# Altium integrated library TI Converter CODEC Voice-Band.IntLib: 99 symbols (part 4 of 7)
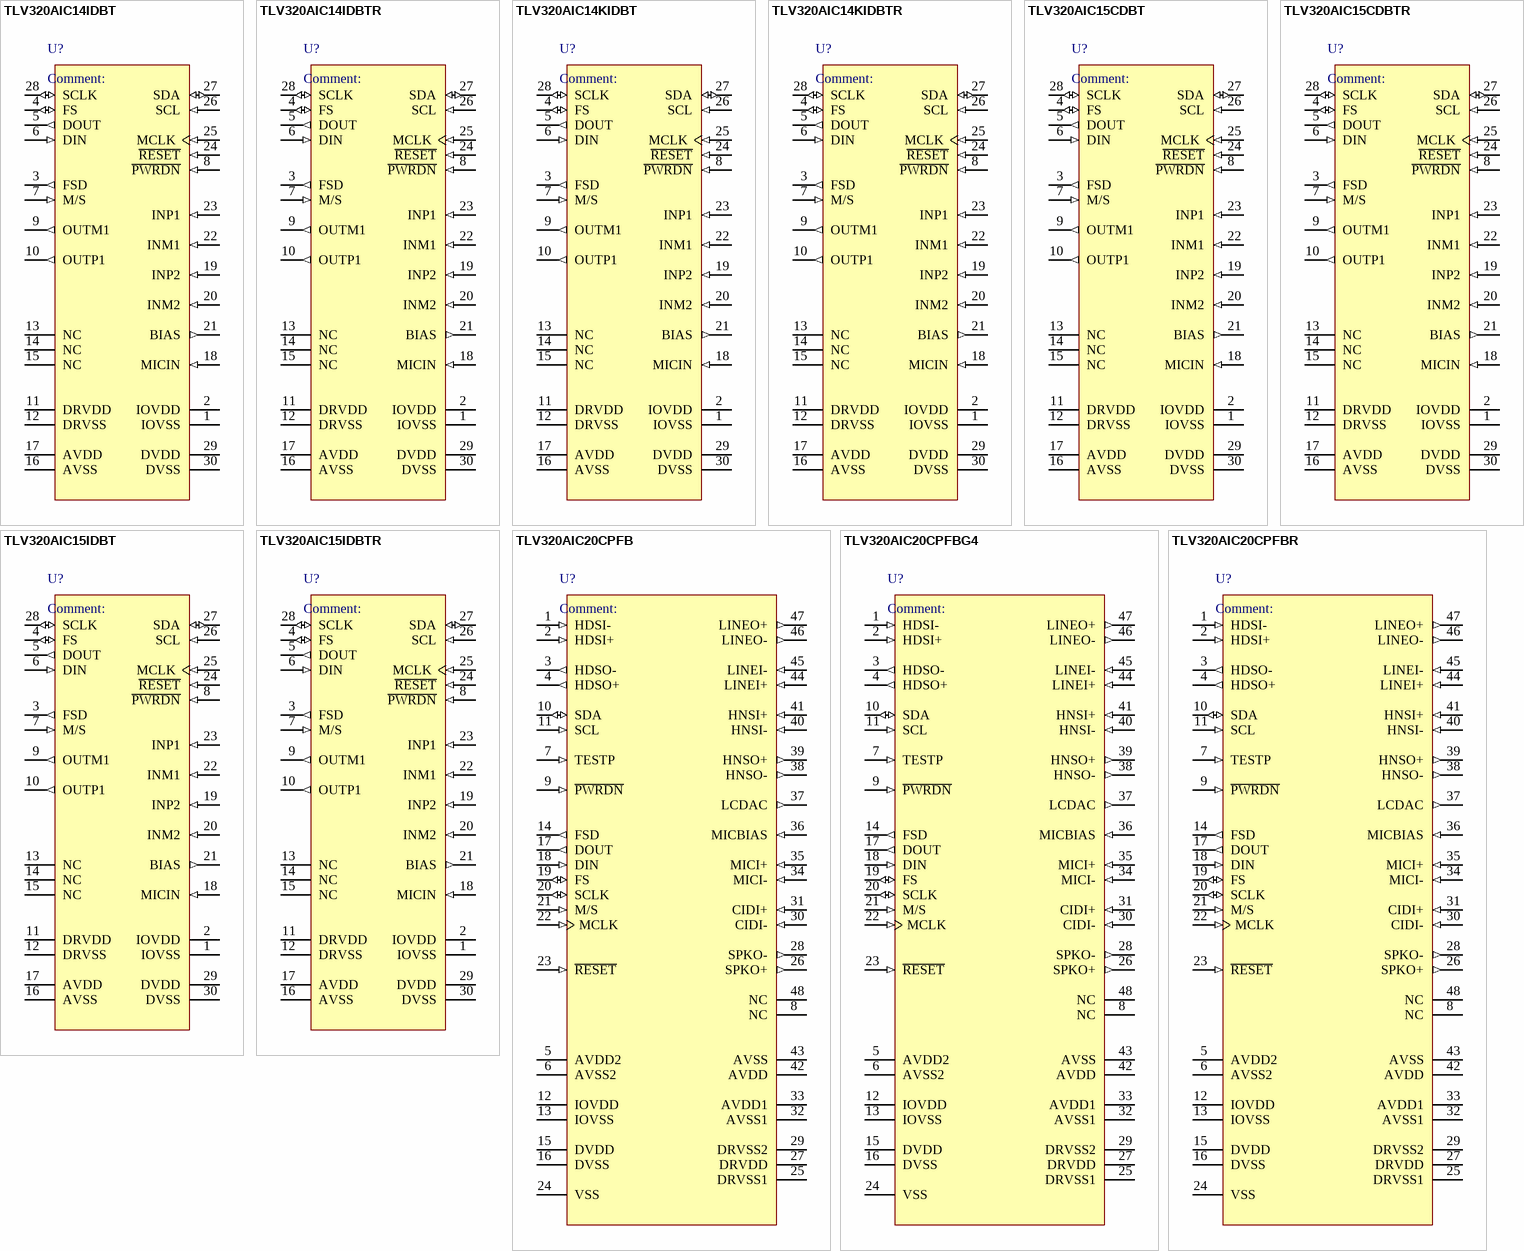
[diagram p12: symbols TLV320AIC14IDBT to TLV320AIC20CPFBR]

## TLV320AIC20CPFBG4
designator U?
Low-Power, Highly-Integrated, Programmable 16-Bit, 26-KSPS Dual-Channel CODEC, 48-Pin TQFP, Commerical Grade; Published: 16-Dec-2005; LatestRevisionDate: 13-Apr-2006; LatestRevisionNote: IPC-7351 Footprint Added.; DatasheetVersion: 13-Sep-2005; PackageVersion: Jan-1998; PackageReference: PFB48; Publisher: Altium Limited; PackageDescription: 48-Pin Thin Plastic Quad Flat Pack 0.5 mm Pitch; Code_JEDEC: MS-026; ComponentLink1Description: Manufacturer Link; ComponentLink1URL: http://www.ti.com/; ComponentLink2Description: Datasheet; ComponentLink2URL: http://focus.ti.com/lit/ds/symlink/tlv320aic20.pdf
footprint PFB48_N (Thin QFP, 48-Leads, Body 7x7mm, Pitch 0.5mm, IPC Medium Density)
footprint PFB48_L (Thin QFP, 48-Leads, Body 7x7mm, Pitch 0.5mm, IPC High Density)
footprint PFB48_M (Thin QFP, 48-Leads, Body 7x7mm, Pitch 0.5mm, IPC Low Density)
pins: 1 HDSI- (in) "Head-set input. The Head-set input can be treated similar to the Line-input pins", 2 HDSI+ (in) "Head-set input. The Head-set input can be treated similar to the Line-input pins", 3 HDSO- (out) "150W output", 4 HDSO+ (out) "150W output", 5 AVDD2 (power) "Analog power supply", 6 AVSS2 (power) "Analog ground", 7 TESTP (in) "Test pin. Should be connected to digital ground.", 8 NC "Not connected", 9 ~{PWRDN} (in) "Power down", 10 SDA (io) "I2C/S2C data", 11 SCL (in) "I2C/S2C clock", 12 IOVDD (power) "I/O power supply", 13 IOVSS (power) "I/O ground", 14 FSD (out) "Frame sync delayed", 15 DVDD (power) "Digital supply (1.8 V)", 16 DVSS (power) "Digital ground", 17 DOUT (out) "Data OUT", 18 DIN (in) "Data IN", 19 FS (io) "Frame sync", 20 SCLK (io) "Serial clock", 21 M/S (in) "Master slave select applied to CODEC1 only. CODEC2 is always a slave.", 22 MCLK (in) "Master clock", 23 ~{RESET} (in) "Reset", 24 VSS (power) "Device ground. Typically this should be connected to the Analog Ground.", 25 DRVSS1 (power) "Driver ground", 26 SPKO+ (out) "8W output", 27 DRVDD (power) "Driver supply", 28 SPKO- (out) "8W output", 29 DRVSS2 (power) "Driver ground", 30 CIDI- (in) "Caller-ID input. The Caller-ID input can be treated similar to the Line-input pins", 31 CIDI+ (in) "Caller-ID input. The Caller-ID input can be treated similar to the Line-input pins", 32 AVSS1 (power) "Analog ground", 33 AVDD1 (power) "Analog supply", 34 MICI- (in) "Microphone input", 35 MICI+ (in) "Microphone input", 36 MICBIAS (in) "Microphone bias", 37 LCDAC (out) "6-Bit DAC output may be used to drive LCDAC", 38 HNSO- (out) "150-W output", 39 HNSO+ (out) "150-W output", 40 HNSI- (in) "Hand-set input. The Hand-set input can be treated similar to the Line-input pins", 41 HNSI+ (in) "Hand-set input. The Hand-set input can be treated similar to the Line-input pins", 42 AVDD (power) "Analog supply", 43 AVSS (power) "Analog ground", 44 LINEI+ (in) "Line input", 45 LINEI- (in) "Line input", 46 LINEO- (out) "600W output", 47 LINEO+ (out) "600W output", 48 NC "Not connected"

## TLV320AIC20CPFBR
designator U?
Low-Power, Highly-Integrated, Programmable 16-Bit, 26-KSPS Dual-Channel CODEC, 48-Pin TQFP, Commerical Grade; Published: 16-Dec-2005; LatestRevisionDate: 13-Apr-2006; LatestRevisionNote: IPC-7351 Footprint Added.; DatasheetVersion: 13-Sep-2005; PackageVersion: Jan-1998; PackageReference: PFB48; Publisher: Altium Limited; PackageDescription: 48-Pin Thin Plastic Quad Flat Pack 0.5 mm Pitch; Code_JEDEC: MS-026; ComponentLink1Description: Manufacturer Link; ComponentLink1URL: http://www.ti.com/; ComponentLink2Description: Datasheet; ComponentLink2URL: http://focus.ti.com/lit/ds/symlink/tlv320aic20.pdf
footprint PFB48_N (Thin QFP, 48-Leads, Body 7x7mm, Pitch 0.5mm, IPC Medium Density)
footprint PFB48_L (Thin QFP, 48-Leads, Body 7x7mm, Pitch 0.5mm, IPC High Density)
footprint PFB48_M (Thin QFP, 48-Leads, Body 7x7mm, Pitch 0.5mm, IPC Low Density)
pins: 1 HDSI- (in) "Head-set input. The Head-set input can be treated similar to the Line-input pins", 2 HDSI+ (in) "Head-set input. The Head-set input can be treated similar to the Line-input pins", 3 HDSO- (out) "150W output", 4 HDSO+ (out) "150W output", 5 AVDD2 (power) "Analog power supply", 6 AVSS2 (power) "Analog ground", 7 TESTP (in) "Test pin. Should be connected to digital ground.", 8 NC "Not connected", 9 ~{PWRDN} (in) "Power down", 10 SDA (io) "I2C/S2C data", 11 SCL (in) "I2C/S2C clock", 12 IOVDD (power) "I/O power supply", 13 IOVSS (power) "I/O ground", 14 FSD (out) "Frame sync delayed", 15 DVDD (power) "Digital supply (1.8 V)", 16 DVSS (power) "Digital ground", 17 DOUT (out) "Data OUT", 18 DIN (in) "Data IN", 19 FS (io) "Frame sync", 20 SCLK (io) "Serial clock", 21 M/S (in) "Master slave select applied to CODEC1 only. CODEC2 is always a slave.", 22 MCLK (in) "Master clock", 23 ~{RESET} (in) "Reset", 24 VSS (power) "Device ground. Typically this should be connected to the Analog Ground.", 25 DRVSS1 (power) "Driver ground", 26 SPKO+ (out) "8W output", 27 DRVDD (power) "Driver supply", 28 SPKO- (out) "8W output", 29 DRVSS2 (power) "Driver ground", 30 CIDI- (in) "Caller-ID input. The Caller-ID input can be treated similar to the Line-input pins", 31 CIDI+ (in) "Caller-ID input. The Caller-ID input can be treated similar to the Line-input pins", 32 AVSS1 (power) "Analog ground", 33 AVDD1 (power) "Analog supply", 34 MICI- (in) "Microphone input", 35 MICI+ (in) "Microphone input", 36 MICBIAS (in) "Microphone bias", 37 LCDAC (out) "6-Bit DAC output may be used to drive LCDAC", 38 HNSO- (out) "150-W output", 39 HNSO+ (out) "150-W output", 40 HNSI- (in) "Hand-set input. The Hand-set input can be treated similar to the Line-input pins", 41 HNSI+ (in) "Hand-set input. The Hand-set input can be treated similar to the Line-input pins", 42 AVDD (power) "Analog supply", 43 AVSS (power) "Analog ground", 44 LINEI+ (in) "Line input", 45 LINEI- (in) "Line input", 46 LINEO- (out) "600W output", 47 LINEO+ (out) "600W output", 48 NC "Not connected"

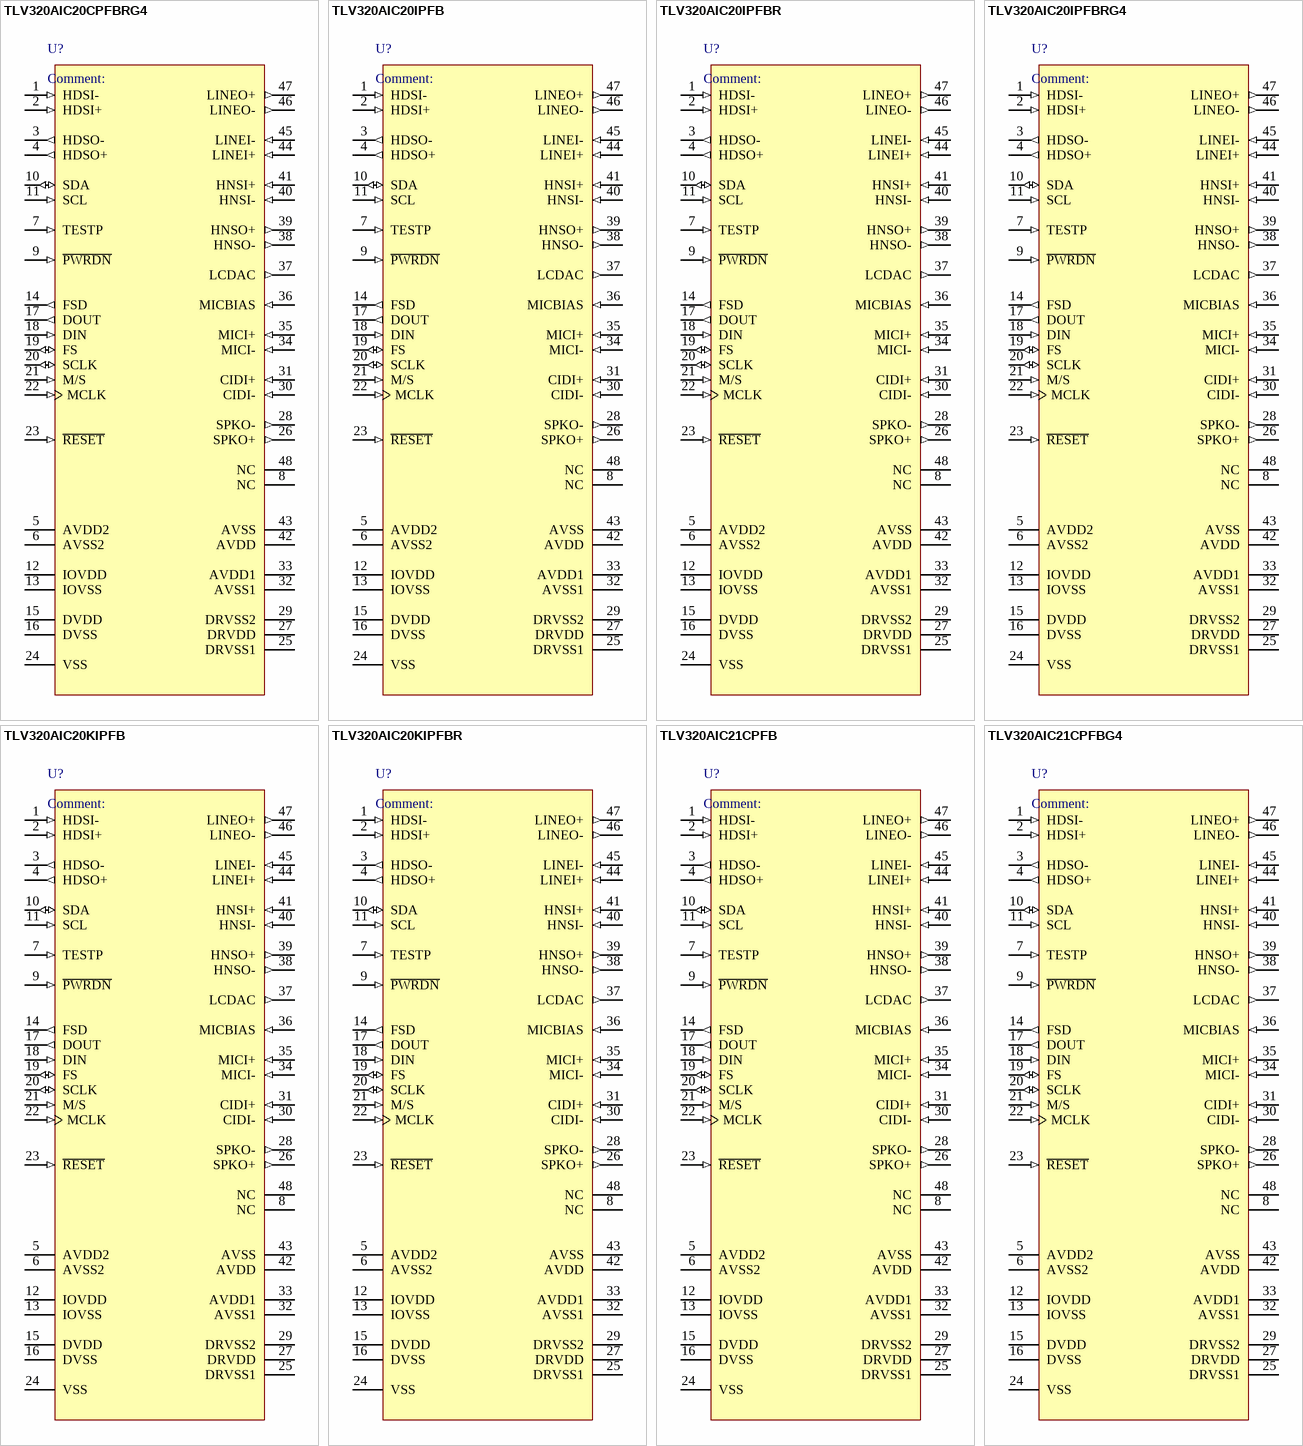
[diagram p4: symbols TLV320AIC20CPFBRG4 to TLV320AIC21CPFBG4]

## TLV320AIC20CPFBRG4
designator U?
Low-Power, Highly-Integrated, Programmable 16-Bit, 26-KSPS Dual-Channel CODEC, 48-Pin TQFP, Commerical Grade; Published: 16-Dec-2005; LatestRevisionDate: 13-Apr-2006; LatestRevisionNote: IPC-7351 Footprint Added.; DatasheetVersion: 13-Sep-2005; PackageVersion: Jan-1998; PackageReference: PFB48; Publisher: Altium Limited; PackageDescription: 48-Pin Thin Plastic Quad Flat Pack 0.5 mm Pitch; Code_JEDEC: MS-026; ComponentLink1Description: Manufacturer Link; ComponentLink1URL: http://www.ti.com/; ComponentLink2Description: Datasheet; ComponentLink2URL: http://focus.ti.com/lit/ds/symlink/tlv320aic20.pdf
footprint PFB48_N (Thin QFP, 48-Leads, Body 7x7mm, Pitch 0.5mm, IPC Medium Density)
footprint PFB48_L (Thin QFP, 48-Leads, Body 7x7mm, Pitch 0.5mm, IPC High Density)
footprint PFB48_M (Thin QFP, 48-Leads, Body 7x7mm, Pitch 0.5mm, IPC Low Density)
pins: 1 HDSI- (in) "Head-set input. The Head-set input can be treated similar to the Line-input pins", 2 HDSI+ (in) "Head-set input. The Head-set input can be treated similar to the Line-input pins", 3 HDSO- (out) "150W output", 4 HDSO+ (out) "150W output", 5 AVDD2 (power) "Analog power supply", 6 AVSS2 (power) "Analog ground", 7 TESTP (in) "Test pin. Should be connected to digital ground.", 8 NC "Not connected", 9 ~{PWRDN} (in) "Power down", 10 SDA (io) "I2C/S2C data", 11 SCL (in) "I2C/S2C clock", 12 IOVDD (power) "I/O power supply", 13 IOVSS (power) "I/O ground", 14 FSD (out) "Frame sync delayed", 15 DVDD (power) "Digital supply (1.8 V)", 16 DVSS (power) "Digital ground", 17 DOUT (out) "Data OUT", 18 DIN (in) "Data IN", 19 FS (io) "Frame sync", 20 SCLK (io) "Serial clock", 21 M/S (in) "Master slave select applied to CODEC1 only. CODEC2 is always a slave.", 22 MCLK (in) "Master clock", 23 ~{RESET} (in) "Reset", 24 VSS (power) "Device ground. Typically this should be connected to the Analog Ground.", 25 DRVSS1 (power) "Driver ground", 26 SPKO+ (out) "8W output", 27 DRVDD (power) "Driver supply", 28 SPKO- (out) "8W output", 29 DRVSS2 (power) "Driver ground", 30 CIDI- (in) "Caller-ID input. The Caller-ID input can be treated similar to the Line-input pins", 31 CIDI+ (in) "Caller-ID input. The Caller-ID input can be treated similar to the Line-input pins", 32 AVSS1 (power) "Analog ground", 33 AVDD1 (power) "Analog supply", 34 MICI- (in) "Microphone input", 35 MICI+ (in) "Microphone input", 36 MICBIAS (in) "Microphone bias", 37 LCDAC (out) "6-Bit DAC output may be used to drive LCDAC", 38 HNSO- (out) "150-W output", 39 HNSO+ (out) "150-W output", 40 HNSI- (in) "Hand-set input. The Hand-set input can be treated similar to the Line-input pins", 41 HNSI+ (in) "Hand-set input. The Hand-set input can be treated similar to the Line-input pins", 42 AVDD (power) "Analog supply", 43 AVSS (power) "Analog ground", 44 LINEI+ (in) "Line input", 45 LINEI- (in) "Line input", 46 LINEO- (out) "600W output", 47 LINEO+ (out) "600W output", 48 NC "Not connected"

## TLV320AIC20IPFB
designator U?
Low-Power, Highly-Integrated, Programmable 16-Bit, 26-KSPS Dual-Channel CODEC, 48-Pin TQFP, Industrial Grade; Published: 16-Dec-2005; LatestRevisionDate: 13-Apr-2006; LatestRevisionNote: IPC-7351 Footprint Added.; DatasheetVersion: 13-Sep-2005; PackageVersion: Jan-1998; PackageReference: PFB48; Publisher: Altium Limited; PackageDescription: 48-Pin Thin Plastic Quad Flat Pack 0.5 mm Pitch; Code_JEDEC: MS-026; ComponentLink1Description: Manufacturer Link; ComponentLink1URL: http://www.ti.com/; ComponentLink2Description: Datasheet; ComponentLink2URL: http://focus.ti.com/lit/ds/symlink/tlv320aic20.pdf
footprint PFB48_N (Thin QFP, 48-Leads, Body 7x7mm, Pitch 0.5mm, IPC Medium Density)
footprint PFB48_L (Thin QFP, 48-Leads, Body 7x7mm, Pitch 0.5mm, IPC High Density)
footprint PFB48_M (Thin QFP, 48-Leads, Body 7x7mm, Pitch 0.5mm, IPC Low Density)
pins: 1 HDSI- (in) "Head-set input. The Head-set input can be treated similar to the Line-input pins", 2 HDSI+ (in) "Head-set input. The Head-set input can be treated similar to the Line-input pins", 3 HDSO- (out) "150W output", 4 HDSO+ (out) "150W output", 5 AVDD2 (power) "Analog power supply", 6 AVSS2 (power) "Analog ground", 7 TESTP (in) "Test pin. Should be connected to digital ground.", 8 NC "Not connected", 9 ~{PWRDN} (in) "Power down", 10 SDA (io) "I2C/S2C data", 11 SCL (in) "I2C/S2C clock", 12 IOVDD (power) "I/O power supply", 13 IOVSS (power) "I/O ground", 14 FSD (out) "Frame sync delayed", 15 DVDD (power) "Digital supply (1.8 V)", 16 DVSS (power) "Digital ground", 17 DOUT (out) "Data OUT", 18 DIN (in) "Data IN", 19 FS (io) "Frame sync", 20 SCLK (io) "Serial clock", 21 M/S (in) "Master slave select applied to CODEC1 only. CODEC2 is always a slave.", 22 MCLK (in) "Master clock", 23 ~{RESET} (in) "Reset", 24 VSS (power) "Device ground. Typically this should be connected to the Analog Ground.", 25 DRVSS1 (power) "Driver ground", 26 SPKO+ (out) "8W output", 27 DRVDD (power) "Driver supply", 28 SPKO- (out) "8W output", 29 DRVSS2 (power) "Driver ground", 30 CIDI- (in) "Caller-ID input. The Caller-ID input can be treated similar to the Line-input pins", 31 CIDI+ (in) "Caller-ID input. The Caller-ID input can be treated similar to the Line-input pins", 32 AVSS1 (power) "Analog ground", 33 AVDD1 (power) "Analog supply", 34 MICI- (in) "Microphone input", 35 MICI+ (in) "Microphone input", 36 MICBIAS (in) "Microphone bias", 37 LCDAC (out) "6-Bit DAC output may be used to drive LCDAC", 38 HNSO- (out) "150-W output", 39 HNSO+ (out) "150-W output", 40 HNSI- (in) "Hand-set input. The Hand-set input can be treated similar to the Line-input pins", 41 HNSI+ (in) "Hand-set input. The Hand-set input can be treated similar to the Line-input pins", 42 AVDD (power) "Analog supply", 43 AVSS (power) "Analog ground", 44 LINEI+ (in) "Line input", 45 LINEI- (in) "Line input", 46 LINEO- (out) "600W output", 47 LINEO+ (out) "600W output", 48 NC "Not connected"

## TLV320AIC20IPFBR
designator U?
Low-Power, Highly-Integrated, Programmable 16-Bit, 26-KSPS Dual-Channel CODEC, 48-Pin TQFP, Industrial Grade; Published: 16-Dec-2005; LatestRevisionDate: 13-Apr-2006; LatestRevisionNote: IPC-7351 Footprint Added.; DatasheetVersion: 13-Sep-2005; PackageVersion: Jan-1998; PackageReference: PFB48; Publisher: Altium Limited; PackageDescription: 48-Pin Thin Plastic Quad Flat Pack 0.5 mm Pitch; Code_JEDEC: MS-026; ComponentLink1Description: Manufacturer Link; ComponentLink1URL: http://www.ti.com/; ComponentLink2Description: Datasheet; ComponentLink2URL: http://focus.ti.com/lit/ds/symlink/tlv320aic20.pdf
footprint PFB48_N (Thin QFP, 48-Leads, Body 7x7mm, Pitch 0.5mm, IPC Medium Density)
footprint PFB48_L (Thin QFP, 48-Leads, Body 7x7mm, Pitch 0.5mm, IPC High Density)
footprint PFB48_M (Thin QFP, 48-Leads, Body 7x7mm, Pitch 0.5mm, IPC Low Density)
pins: 1 HDSI- (in) "Head-set input. The Head-set input can be treated similar to the Line-input pins", 2 HDSI+ (in) "Head-set input. The Head-set input can be treated similar to the Line-input pins", 3 HDSO- (out) "150W output", 4 HDSO+ (out) "150W output", 5 AVDD2 (power) "Analog power supply", 6 AVSS2 (power) "Analog ground", 7 TESTP (in) "Test pin. Should be connected to digital ground.", 8 NC "Not connected", 9 ~{PWRDN} (in) "Power down", 10 SDA (io) "I2C/S2C data", 11 SCL (in) "I2C/S2C clock", 12 IOVDD (power) "I/O power supply", 13 IOVSS (power) "I/O ground", 14 FSD (out) "Frame sync delayed", 15 DVDD (power) "Digital supply (1.8 V)", 16 DVSS (power) "Digital ground", 17 DOUT (out) "Data OUT", 18 DIN (in) "Data IN", 19 FS (io) "Frame sync", 20 SCLK (io) "Serial clock", 21 M/S (in) "Master slave select applied to CODEC1 only. CODEC2 is always a slave.", 22 MCLK (in) "Master clock", 23 ~{RESET} (in) "Reset", 24 VSS (power) "Device ground. Typically this should be connected to the Analog Ground.", 25 DRVSS1 (power) "Driver ground", 26 SPKO+ (out) "8W output", 27 DRVDD (power) "Driver supply", 28 SPKO- (out) "8W output", 29 DRVSS2 (power) "Driver ground", 30 CIDI- (in) "Caller-ID input. The Caller-ID input can be treated similar to the Line-input pins", 31 CIDI+ (in) "Caller-ID input. The Caller-ID input can be treated similar to the Line-input pins", 32 AVSS1 (power) "Analog ground", 33 AVDD1 (power) "Analog supply", 34 MICI- (in) "Microphone input", 35 MICI+ (in) "Microphone input", 36 MICBIAS (in) "Microphone bias", 37 LCDAC (out) "6-Bit DAC output may be used to drive LCDAC", 38 HNSO- (out) "150-W output", 39 HNSO+ (out) "150-W output", 40 HNSI- (in) "Hand-set input. The Hand-set input can be treated similar to the Line-input pins", 41 HNSI+ (in) "Hand-set input. The Hand-set input can be treated similar to the Line-input pins", 42 AVDD (power) "Analog supply", 43 AVSS (power) "Analog ground", 44 LINEI+ (in) "Line input", 45 LINEI- (in) "Line input", 46 LINEO- (out) "600W output", 47 LINEO+ (out) "600W output", 48 NC "Not connected"

## TLV320AIC20IPFBRG4
designator U?
Low-Power, Highly-Integrated, Programmable 16-Bit, 26-KSPS Dual-Channel CODEC, 48-Pin TQFP, Industrial Grade; Published: 16-Dec-2005; LatestRevisionDate: 13-Apr-2006; LatestRevisionNote: IPC-7351 Footprint Added.; DatasheetVersion: 13-Sep-2005; PackageVersion: Jan-1998; PackageReference: PFB48; Publisher: Altium Limited; PackageDescription: 48-Pin Thin Plastic Quad Flat Pack 0.5 mm Pitch; Code_JEDEC: MS-026; ComponentLink1Description: Manufacturer Link; ComponentLink1URL: http://www.ti.com/; ComponentLink2Description: Datasheet; ComponentLink2URL: http://focus.ti.com/lit/ds/symlink/tlv320aic20.pdf
footprint PFB48_N (Thin QFP, 48-Leads, Body 7x7mm, Pitch 0.5mm, IPC Medium Density)
footprint PFB48_L (Thin QFP, 48-Leads, Body 7x7mm, Pitch 0.5mm, IPC High Density)
footprint PFB48_M (Thin QFP, 48-Leads, Body 7x7mm, Pitch 0.5mm, IPC Low Density)
pins: 1 HDSI- (in) "Head-set input. The Head-set input can be treated similar to the Line-input pins", 2 HDSI+ (in) "Head-set input. The Head-set input can be treated similar to the Line-input pins", 3 HDSO- (out) "150W output", 4 HDSO+ (out) "150W output", 5 AVDD2 (power) "Analog power supply", 6 AVSS2 (power) "Analog ground", 7 TESTP (in) "Test pin. Should be connected to digital ground.", 8 NC "Not connected", 9 ~{PWRDN} (in) "Power down", 10 SDA (io) "I2C/S2C data", 11 SCL (in) "I2C/S2C clock", 12 IOVDD (power) "I/O power supply", 13 IOVSS (power) "I/O ground", 14 FSD (out) "Frame sync delayed", 15 DVDD (power) "Digital supply (1.8 V)", 16 DVSS (power) "Digital ground", 17 DOUT (out) "Data OUT", 18 DIN (in) "Data IN", 19 FS (io) "Frame sync", 20 SCLK (io) "Serial clock", 21 M/S (in) "Master slave select applied to CODEC1 only. CODEC2 is always a slave.", 22 MCLK (in) "Master clock", 23 ~{RESET} (in) "Reset", 24 VSS (power) "Device ground. Typically this should be connected to the Analog Ground.", 25 DRVSS1 (power) "Driver ground", 26 SPKO+ (out) "8W output", 27 DRVDD (power) "Driver supply", 28 SPKO- (out) "8W output", 29 DRVSS2 (power) "Driver ground", 30 CIDI- (in) "Caller-ID input. The Caller-ID input can be treated similar to the Line-input pins", 31 CIDI+ (in) "Caller-ID input. The Caller-ID input can be treated similar to the Line-input pins", 32 AVSS1 (power) "Analog ground", 33 AVDD1 (power) "Analog supply", 34 MICI- (in) "Microphone input", 35 MICI+ (in) "Microphone input", 36 MICBIAS (in) "Microphone bias", 37 LCDAC (out) "6-Bit DAC output may be used to drive LCDAC", 38 HNSO- (out) "150-W output", 39 HNSO+ (out) "150-W output", 40 HNSI- (in) "Hand-set input. The Hand-set input can be treated similar to the Line-input pins", 41 HNSI+ (in) "Hand-set input. The Hand-set input can be treated similar to the Line-input pins", 42 AVDD (power) "Analog supply", 43 AVSS (power) "Analog ground", 44 LINEI+ (in) "Line input", 45 LINEI- (in) "Line input", 46 LINEO- (out) "600W output", 47 LINEO+ (out) "600W output", 48 NC "Not connected"

## TLV320AIC20KIPFB
designator U?
Low-Power, Highly-Integrated, Programmable 16-Bit, 26-KSPS Dual-Channel CODEC, 48-Pin TQFP, Industrial Grade; Published: 16-Dec-2005; LatestRevisionDate: 13-Apr-2006; LatestRevisionNote: IPC-7351 Footprint Added.; DatasheetVersion: 13-Sep-2005; PackageVersion: Jan-1998; PackageReference: PFB48; Publisher: Altium Limited; PackageDescription: 48-Pin Thin Plastic Quad Flat Pack 0.5 mm Pitch; Code_JEDEC: MS-026; ComponentLink1Description: Manufacturer Link; ComponentLink1URL: http://www.ti.com/; ComponentLink2Description: Datasheet; ComponentLink2URL: http://focus.ti.com/lit/ds/symlink/tlv320aic20k.pdf
footprint PFB48_N (Thin QFP, 48-Leads, Body 7x7mm, Pitch 0.5mm, IPC Medium Density)
footprint PFB48_L (Thin QFP, 48-Leads, Body 7x7mm, Pitch 0.5mm, IPC High Density)
footprint PFB48_M (Thin QFP, 48-Leads, Body 7x7mm, Pitch 0.5mm, IPC Low Density)
pins: 1 HDSI- (in) "Head-set input. The Head-set input can be treated similar to the Line-input pins", 2 HDSI+ (in) "Head-set input. The Head-set input can be treated similar to the Line-input pins", 3 HDSO- (out) "150W output", 4 HDSO+ (out) "150W output", 5 AVDD2 (power) "Analog power supply", 6 AVSS2 (power) "Analog ground", 7 TESTP (in) "Test pin. Should be connected to digital ground.", 8 NC "Not connected", 9 ~{PWRDN} (in) "Power down", 10 SDA (io) "I2C/S2C data", 11 SCL (in) "I2C/S2C clock", 12 IOVDD (power) "I/O power supply", 13 IOVSS (power) "I/O ground", 14 FSD (out) "Frame sync delayed", 15 DVDD (power) "Digital supply (1.8 V)", 16 DVSS (power) "Digital ground", 17 DOUT (out) "Data OUT", 18 DIN (in) "Data IN", 19 FS (io) "Frame sync", 20 SCLK (io) "Serial clock", 21 M/S (in) "Master slave select applied to CODEC1 only. CODEC2 is always a slave.", 22 MCLK (in) "Master clock", 23 ~{RESET} (in) "Reset", 24 VSS (power) "Device ground. Typically this should be connected to the Analog Ground.", 25 DRVSS1 (power) "Driver ground", 26 SPKO+ (out) "8W output", 27 DRVDD (power) "Driver supply", 28 SPKO- (out) "8W output", 29 DRVSS2 (power) "Driver ground", 30 CIDI- (in) "Caller-ID input. The Caller-ID input can be treated similar to the Line-input pins", 31 CIDI+ (in) "Caller-ID input. The Caller-ID input can be treated similar to the Line-input pins", 32 AVSS1 (power) "Analog ground", 33 AVDD1 (power) "Analog supply", 34 MICI- (in) "Microphone input", 35 MICI+ (in) "Microphone input", 36 MICBIAS (in) "Microphone bias", 37 LCDAC (out) "6-Bit DAC output may be used to drive LCDAC", 38 HNSO- (out) "150-W output", 39 HNSO+ (out) "150-W output", 40 HNSI- (in) "Hand-set input. The Hand-set input can be treated similar to the Line-input pins", 41 HNSI+ (in) "Hand-set input. The Hand-set input can be treated similar to the Line-input pins", 42 AVDD (power) "Analog supply", 43 AVSS (power) "Analog ground", 44 LINEI+ (in) "Line input", 45 LINEI- (in) "Line input", 46 LINEO- (out) "600W output", 47 LINEO+ (out) "600W output", 48 NC "Not connected"

## TLV320AIC20KIPFBR
designator U?
Low-Power, Highly-Integrated, Programmable 16-Bit, 26-KSPS Dual-Channel CODEC, 48-Pin TQFP, Industrial Grade; Published: 16-Dec-2005; LatestRevisionDate: 13-Apr-2006; LatestRevisionNote: IPC-7351 Footprint Added.; DatasheetVersion: 13-Sep-2005; PackageVersion: Jan-1998; PackageReference: PFB48; Publisher: Altium Limited; PackageDescription: 48-Pin Thin Plastic Quad Flat Pack 0.5 mm Pitch; Code_JEDEC: MS-026; ComponentLink1Description: Manufacturer Link; ComponentLink1URL: http://www.ti.com/; ComponentLink2Description: Datasheet; ComponentLink2URL: http://focus.ti.com/lit/ds/symlink/tlv320aic20k.pdf
footprint PFB48_N (Thin QFP, 48-Leads, Body 7x7mm, Pitch 0.5mm, IPC Medium Density)
footprint PFB48_L (Thin QFP, 48-Leads, Body 7x7mm, Pitch 0.5mm, IPC High Density)
footprint PFB48_M (Thin QFP, 48-Leads, Body 7x7mm, Pitch 0.5mm, IPC Low Density)
pins: 1 HDSI- (in) "Head-set input. The Head-set input can be treated similar to the Line-input pins", 2 HDSI+ (in) "Head-set input. The Head-set input can be treated similar to the Line-input pins", 3 HDSO- (out) "150W output", 4 HDSO+ (out) "150W output", 5 AVDD2 (power) "Analog power supply", 6 AVSS2 (power) "Analog ground", 7 TESTP (in) "Test pin. Should be connected to digital ground.", 8 NC "Not connected", 9 ~{PWRDN} (in) "Power down", 10 SDA (io) "I2C/S2C data", 11 SCL (in) "I2C/S2C clock", 12 IOVDD (power) "I/O power supply", 13 IOVSS (power) "I/O ground", 14 FSD (out) "Frame sync delayed", 15 DVDD (power) "Digital supply (1.8 V)", 16 DVSS (power) "Digital ground", 17 DOUT (out) "Data OUT", 18 DIN (in) "Data IN", 19 FS (io) "Frame sync", 20 SCLK (io) "Serial clock", 21 M/S (in) "Master slave select applied to CODEC1 only. CODEC2 is always a slave.", 22 MCLK (in) "Master clock", 23 ~{RESET} (in) "Reset", 24 VSS (power) "Device ground. Typically this should be connected to the Analog Ground.", 25 DRVSS1 (power) "Driver ground", 26 SPKO+ (out) "8W output", 27 DRVDD (power) "Driver supply", 28 SPKO- (out) "8W output", 29 DRVSS2 (power) "Driver ground", 30 CIDI- (in) "Caller-ID input. The Caller-ID input can be treated similar to the Line-input pins", 31 CIDI+ (in) "Caller-ID input. The Caller-ID input can be treated similar to the Line-input pins", 32 AVSS1 (power) "Analog ground", 33 AVDD1 (power) "Analog supply", 34 MICI- (in) "Microphone input", 35 MICI+ (in) "Microphone input", 36 MICBIAS (in) "Microphone bias", 37 LCDAC (out) "6-Bit DAC output may be used to drive LCDAC", 38 HNSO- (out) "150-W output", 39 HNSO+ (out) "150-W output", 40 HNSI- (in) "Hand-set input. The Hand-set input can be treated similar to the Line-input pins", 41 HNSI+ (in) "Hand-set input. The Hand-set input can be treated similar to the Line-input pins", 42 AVDD (power) "Analog supply", 43 AVSS (power) "Analog ground", 44 LINEI+ (in) "Line input", 45 LINEI- (in) "Line input", 46 LINEO- (out) "600W output", 47 LINEO+ (out) "600W output", 48 NC "Not connected"

## TLV320AIC21CPFB
designator U?
Low-Power, Highly-Integrated, Programmable 16-Bit, 26-KSPS Dual-Channel CODEC, 48-Pin TQFP, Commerical Grade; Published: 16-Dec-2005; LatestRevisionDate: 13-Apr-2006; LatestRevisionNote: IPC-7351 Footprint Added.; DatasheetVersion: 13-Sep-2005; PackageVersion: Jan-1998; PackageReference: PFB48; Publisher: Altium Limited; PackageDescription: 48-Pin Thin Plastic Quad Flat Pack 0.5 mm Pitch; Code_JEDEC: MS-026; ComponentLink1Description: Manufacturer Link; ComponentLink1URL: http://www.ti.com/; ComponentLink2Description: Datasheet; ComponentLink2URL: http://focus.ti.com/lit/ds/symlink/tlv320aic21.pdf
footprint PFB48_N (Thin QFP, 48-Leads, Body 7x7mm, Pitch 0.5mm, IPC Medium Density)
footprint PFB48_L (Thin QFP, 48-Leads, Body 7x7mm, Pitch 0.5mm, IPC High Density)
footprint PFB48_M (Thin QFP, 48-Leads, Body 7x7mm, Pitch 0.5mm, IPC Low Density)
pins: 1 HDSI- (in) "Head-set input. The Head-set input can be treated similar to the Line-input pins", 2 HDSI+ (in) "Head-set input. The Head-set input can be treated similar to the Line-input pins", 3 HDSO- (out) "150W output", 4 HDSO+ (out) "150W output", 5 AVDD2 (power) "Analog power supply", 6 AVSS2 (power) "Analog ground", 7 TESTP (in) "Test pin. Should be connected to digital ground.", 8 NC "Not connected", 9 ~{PWRDN} (in) "Power down", 10 SDA (io) "I2C/S2C data", 11 SCL (in) "I2C/S2C clock", 12 IOVDD (power) "I/O power supply", 13 IOVSS (power) "I/O ground", 14 FSD (out) "Frame sync delayed", 15 DVDD (power) "Digital supply (1.8 V)", 16 DVSS (power) "Digital ground", 17 DOUT (out) "Data OUT", 18 DIN (in) "Data IN", 19 FS (io) "Frame sync", 20 SCLK (io) "Serial clock", 21 M/S (in) "Master slave select applied to CODEC1 only. CODEC2 is always a slave.", 22 MCLK (in) "Master clock", 23 ~{RESET} (in) "Reset", 24 VSS (power) "Device ground. Typically this should be connected to the Analog Ground.", 25 DRVSS1 (power) "Driver ground", 26 SPKO+ (out) "8W output", 27 DRVDD (power) "Driver supply", 28 SPKO- (out) "8W output", 29 DRVSS2 (power) "Driver ground", 30 CIDI- (in) "Caller-ID input. The Caller-ID input can be treated similar to the Line-input pins", 31 CIDI+ (in) "Caller-ID input. The Caller-ID input can be treated similar to the Line-input pins", 32 AVSS1 (power) "Analog ground", 33 AVDD1 (power) "Analog supply", 34 MICI- (in) "Microphone input", 35 MICI+ (in) "Microphone input", 36 MICBIAS (in) "Microphone bias", 37 LCDAC (out) "6-Bit DAC output may be used to drive LCDAC", 38 HNSO- (out) "150-W output", 39 HNSO+ (out) "150-W output", 40 HNSI- (in) "Hand-set input. The Hand-set input can be treated similar to the Line-input pins", 41 HNSI+ (in) "Hand-set input. The Hand-set input can be treated similar to the Line-input pins", 42 AVDD (power) "Analog supply", 43 AVSS (power) "Analog ground", 44 LINEI+ (in) "Line input", 45 LINEI- (in) "Line input", 46 LINEO- (out) "600W output", 47 LINEO+ (out) "600W output", 48 NC "Not connected"

## TLV320AIC21CPFBG4
designator U?
Low-Power, Highly-Integrated, Programmable 16-Bit, 26-KSPS Dual-Channel CODEC, 48-Pin TQFP, Commerical Grade; Published: 16-Dec-2005; LatestRevisionDate: 13-Apr-2006; LatestRevisionNote: IPC-7351 Footprint Added.; DatasheetVersion: 13-Sep-2005; PackageVersion: Jan-1998; PackageReference: PFB48; Publisher: Altium Limited; PackageDescription: 48-Pin Thin Plastic Quad Flat Pack 0.5 mm Pitch; Code_JEDEC: MS-026; ComponentLink1Description: Manufacturer Link; ComponentLink1URL: http://www.ti.com/; ComponentLink2Description: Datasheet; ComponentLink2URL: http://focus.ti.com/lit/ds/symlink/tlv320aic21.pdf
footprint PFB48_N (Thin QFP, 48-Leads, Body 7x7mm, Pitch 0.5mm, IPC Medium Density)
footprint PFB48_L (Thin QFP, 48-Leads, Body 7x7mm, Pitch 0.5mm, IPC High Density)
footprint PFB48_M (Thin QFP, 48-Leads, Body 7x7mm, Pitch 0.5mm, IPC Low Density)
pins: 1 HDSI- (in) "Head-set input. The Head-set input can be treated similar to the Line-input pins", 2 HDSI+ (in) "Head-set input. The Head-set input can be treated similar to the Line-input pins", 3 HDSO- (out) "150W output", 4 HDSO+ (out) "150W output", 5 AVDD2 (power) "Analog power supply", 6 AVSS2 (power) "Analog ground", 7 TESTP (in) "Test pin. Should be connected to digital ground.", 8 NC "Not connected", 9 ~{PWRDN} (in) "Power down", 10 SDA (io) "I2C/S2C data", 11 SCL (in) "I2C/S2C clock", 12 IOVDD (power) "I/O power supply", 13 IOVSS (power) "I/O ground", 14 FSD (out) "Frame sync delayed", 15 DVDD (power) "Digital supply (1.8 V)", 16 DVSS (power) "Digital ground", 17 DOUT (out) "Data OUT", 18 DIN (in) "Data IN", 19 FS (io) "Frame sync", 20 SCLK (io) "Serial clock", 21 M/S (in) "Master slave select applied to CODEC1 only. CODEC2 is always a slave.", 22 MCLK (in) "Master clock", 23 ~{RESET} (in) "Reset", 24 VSS (power) "Device ground. Typically this should be connected to the Analog Ground.", 25 DRVSS1 (power) "Driver ground", 26 SPKO+ (out) "8W output", 27 DRVDD (power) "Driver supply", 28 SPKO- (out) "8W output", 29 DRVSS2 (power) "Driver ground", 30 CIDI- (in) "Caller-ID input. The Caller-ID input can be treated similar to the Line-input pins", 31 CIDI+ (in) "Caller-ID input. The Caller-ID input can be treated similar to the Line-input pins", 32 AVSS1 (power) "Analog ground", 33 AVDD1 (power) "Analog supply", 34 MICI- (in) "Microphone input", 35 MICI+ (in) "Microphone input", 36 MICBIAS (in) "Microphone bias", 37 LCDAC (out) "6-Bit DAC output may be used to drive LCDAC", 38 HNSO- (out) "150-W output", 39 HNSO+ (out) "150-W output", 40 HNSI- (in) "Hand-set input. The Hand-set input can be treated similar to the Line-input pins", 41 HNSI+ (in) "Hand-set input. The Hand-set input can be treated similar to the Line-input pins", 42 AVDD (power) "Analog supply", 43 AVSS (power) "Analog ground", 44 LINEI+ (in) "Line input", 45 LINEI- (in) "Line input", 46 LINEO- (out) "600W output", 47 LINEO+ (out) "600W output", 48 NC "Not connected"

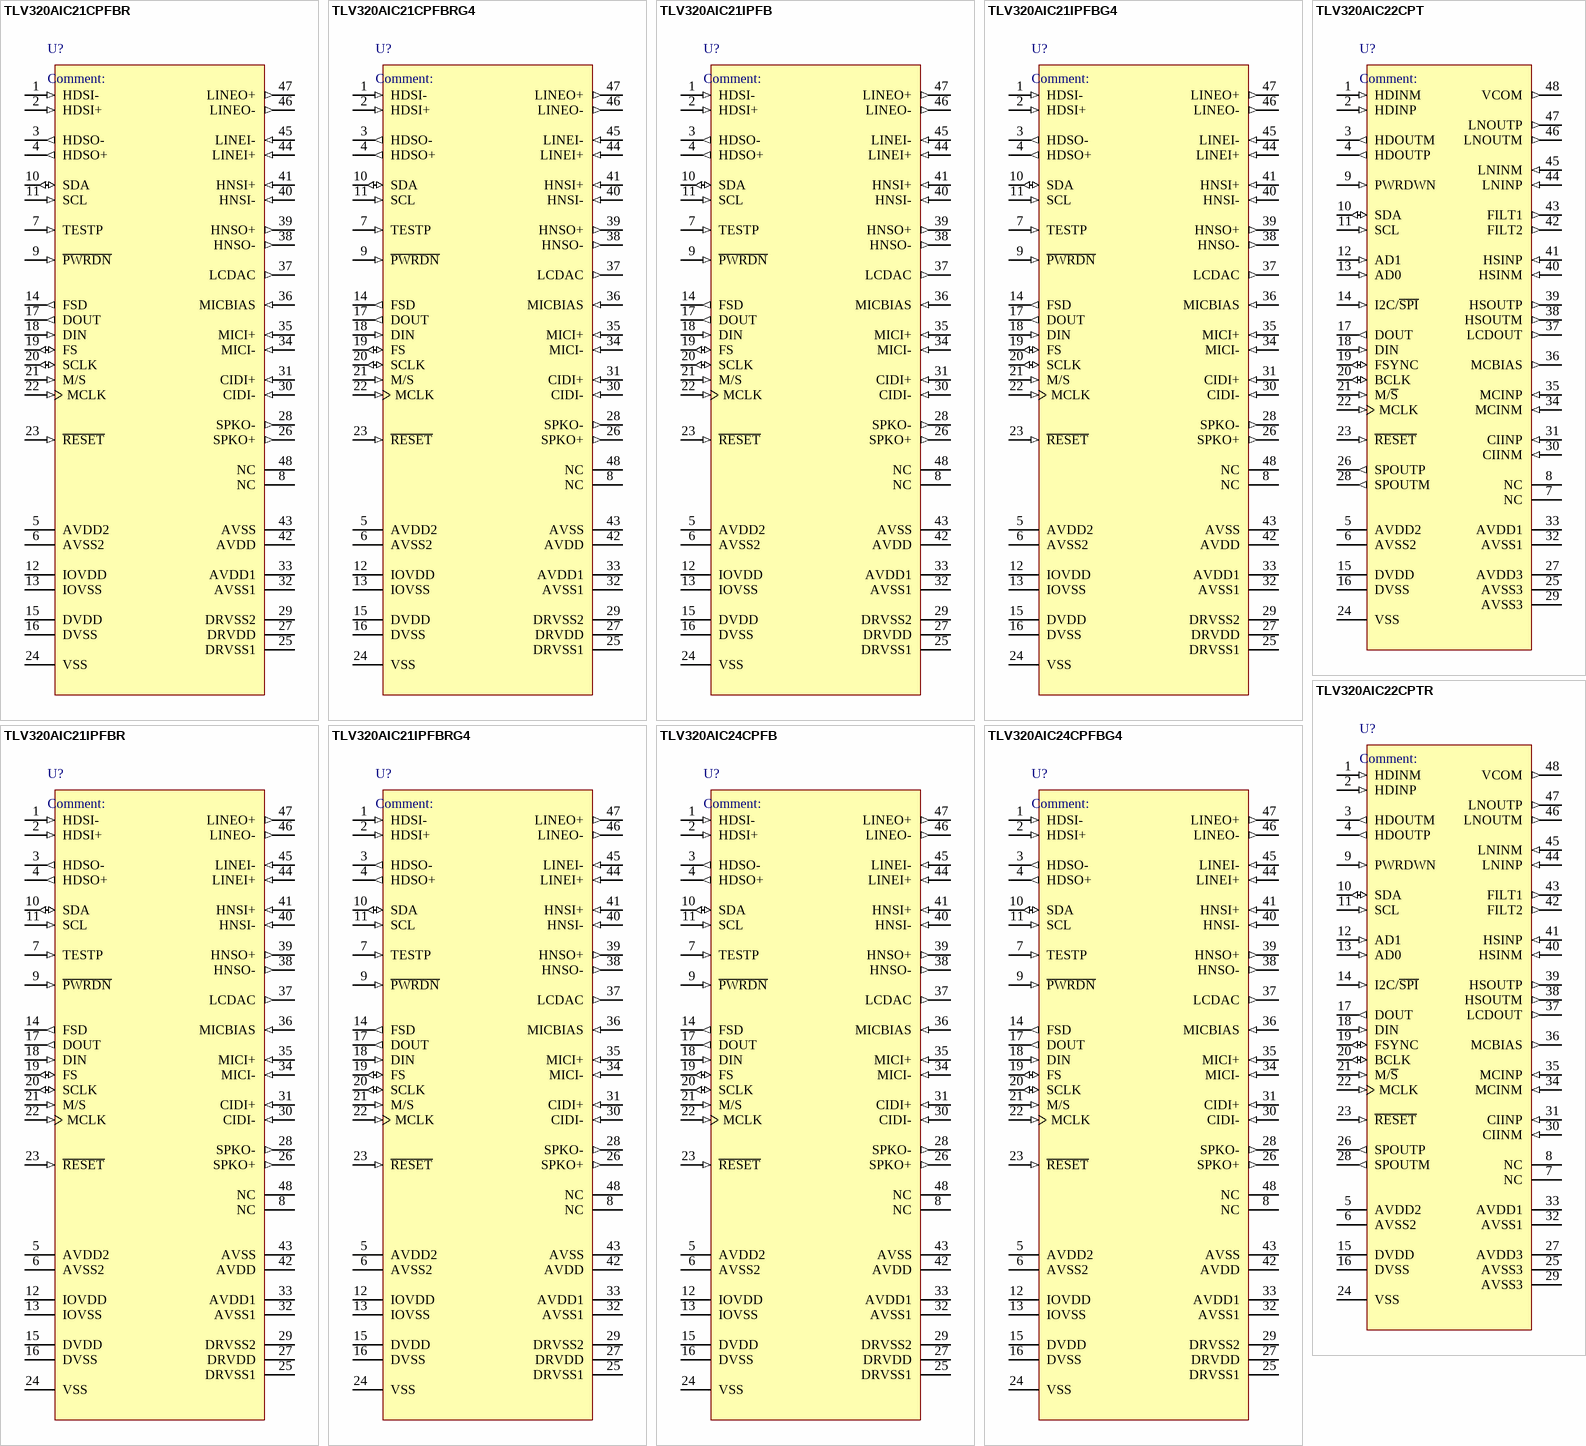
[diagram p5: symbols TLV320AIC21CPFBR to TLV320AIC24CPFBG4]

## TLV320AIC21CPFBR
designator U?
Low-Power, Highly-Integrated, Programmable 16-Bit, 26-KSPS Dual-Channel CODEC, 48-Pin TQFP, Commerical Grade; Published: 16-Dec-2005; LatestRevisionDate: 13-Apr-2006; LatestRevisionNote: IPC-7351 Footprint Added.; DatasheetVersion: 13-Sep-2005; PackageVersion: Jan-1998; PackageReference: PFB48; Publisher: Altium Limited; PackageDescription: 48-Pin Thin Plastic Quad Flat Pack 0.5 mm Pitch; Code_JEDEC: MS-026; ComponentLink1Description: Manufacturer Link; ComponentLink1URL: http://www.ti.com/; ComponentLink2Description: Datasheet; ComponentLink2URL: http://focus.ti.com/lit/ds/symlink/tlv320aic21.pdf
footprint PFB48_N (Thin QFP, 48-Leads, Body 7x7mm, Pitch 0.5mm, IPC Medium Density)
footprint PFB48_L (Thin QFP, 48-Leads, Body 7x7mm, Pitch 0.5mm, IPC High Density)
footprint PFB48_M (Thin QFP, 48-Leads, Body 7x7mm, Pitch 0.5mm, IPC Low Density)
pins: 1 HDSI- (in) "Head-set input. The Head-set input can be treated similar to the Line-input pins", 2 HDSI+ (in) "Head-set input. The Head-set input can be treated similar to the Line-input pins", 3 HDSO- (out) "150W output", 4 HDSO+ (out) "150W output", 5 AVDD2 (power) "Analog power supply", 6 AVSS2 (power) "Analog ground", 7 TESTP (in) "Test pin. Should be connected to digital ground.", 8 NC "Not connected", 9 ~{PWRDN} (in) "Power down", 10 SDA (io) "I2C/S2C data", 11 SCL (in) "I2C/S2C clock", 12 IOVDD (power) "I/O power supply", 13 IOVSS (power) "I/O ground", 14 FSD (out) "Frame sync delayed", 15 DVDD (power) "Digital supply (1.8 V)", 16 DVSS (power) "Digital ground", 17 DOUT (out) "Data OUT", 18 DIN (in) "Data IN", 19 FS (io) "Frame sync", 20 SCLK (io) "Serial clock", 21 M/S (in) "Master slave select applied to CODEC1 only. CODEC2 is always a slave.", 22 MCLK (in) "Master clock", 23 ~{RESET} (in) "Reset", 24 VSS (power) "Device ground. Typically this should be connected to the Analog Ground.", 25 DRVSS1 (power) "Driver ground", 26 SPKO+ (out) "8W output", 27 DRVDD (power) "Driver supply", 28 SPKO- (out) "8W output", 29 DRVSS2 (power) "Driver ground", 30 CIDI- (in) "Caller-ID input. The Caller-ID input can be treated similar to the Line-input pins", 31 CIDI+ (in) "Caller-ID input. The Caller-ID input can be treated similar to the Line-input pins", 32 AVSS1 (power) "Analog ground", 33 AVDD1 (power) "Analog supply", 34 MICI- (in) "Microphone input", 35 MICI+ (in) "Microphone input", 36 MICBIAS (in) "Microphone bias", 37 LCDAC (out) "6-Bit DAC output may be used to drive LCDAC", 38 HNSO- (out) "150-W output", 39 HNSO+ (out) "150-W output", 40 HNSI- (in) "Hand-set input. The Hand-set input can be treated similar to the Line-input pins", 41 HNSI+ (in) "Hand-set input. The Hand-set input can be treated similar to the Line-input pins", 42 AVDD (power) "Analog supply", 43 AVSS (power) "Analog ground", 44 LINEI+ (in) "Line input", 45 LINEI- (in) "Line input", 46 LINEO- (out) "600W output", 47 LINEO+ (out) "600W output", 48 NC "Not connected"

## TLV320AIC21CPFBRG4
designator U?
Low-Power, Highly-Integrated, Programmable 16-Bit, 26-KSPS Dual-Channel CODEC, 48-Pin TQFP, Commerical Grade; Published: 16-Dec-2005; LatestRevisionDate: 13-Apr-2006; LatestRevisionNote: IPC-7351 Footprint Added.; DatasheetVersion: 13-Sep-2005; PackageVersion: Jan-1998; PackageReference: PFB48; Publisher: Altium Limited; PackageDescription: 48-Pin Thin Plastic Quad Flat Pack 0.5 mm Pitch; Code_JEDEC: MS-026; ComponentLink1Description: Manufacturer Link; ComponentLink1URL: http://www.ti.com/; ComponentLink2Description: Datasheet; ComponentLink2URL: http://focus.ti.com/lit/ds/symlink/tlv320aic21.pdf
footprint PFB48_N (Thin QFP, 48-Leads, Body 7x7mm, Pitch 0.5mm, IPC Medium Density)
footprint PFB48_L (Thin QFP, 48-Leads, Body 7x7mm, Pitch 0.5mm, IPC High Density)
footprint PFB48_M (Thin QFP, 48-Leads, Body 7x7mm, Pitch 0.5mm, IPC Low Density)
pins: 1 HDSI- (in) "Head-set input. The Head-set input can be treated similar to the Line-input pins", 2 HDSI+ (in) "Head-set input. The Head-set input can be treated similar to the Line-input pins", 3 HDSO- (out) "150W output", 4 HDSO+ (out) "150W output", 5 AVDD2 (power) "Analog power supply", 6 AVSS2 (power) "Analog ground", 7 TESTP (in) "Test pin. Should be connected to digital ground.", 8 NC "Not connected", 9 ~{PWRDN} (in) "Power down", 10 SDA (io) "I2C/S2C data", 11 SCL (in) "I2C/S2C clock", 12 IOVDD (power) "I/O power supply", 13 IOVSS (power) "I/O ground", 14 FSD (out) "Frame sync delayed", 15 DVDD (power) "Digital supply (1.8 V)", 16 DVSS (power) "Digital ground", 17 DOUT (out) "Data OUT", 18 DIN (in) "Data IN", 19 FS (io) "Frame sync", 20 SCLK (io) "Serial clock", 21 M/S (in) "Master slave select applied to CODEC1 only. CODEC2 is always a slave.", 22 MCLK (in) "Master clock", 23 ~{RESET} (in) "Reset", 24 VSS (power) "Device ground. Typically this should be connected to the Analog Ground.", 25 DRVSS1 (power) "Driver ground", 26 SPKO+ (out) "8W output", 27 DRVDD (power) "Driver supply", 28 SPKO- (out) "8W output", 29 DRVSS2 (power) "Driver ground", 30 CIDI- (in) "Caller-ID input. The Caller-ID input can be treated similar to the Line-input pins", 31 CIDI+ (in) "Caller-ID input. The Caller-ID input can be treated similar to the Line-input pins", 32 AVSS1 (power) "Analog ground", 33 AVDD1 (power) "Analog supply", 34 MICI- (in) "Microphone input", 35 MICI+ (in) "Microphone input", 36 MICBIAS (in) "Microphone bias", 37 LCDAC (out) "6-Bit DAC output may be used to drive LCDAC", 38 HNSO- (out) "150-W output", 39 HNSO+ (out) "150-W output", 40 HNSI- (in) "Hand-set input. The Hand-set input can be treated similar to the Line-input pins", 41 HNSI+ (in) "Hand-set input. The Hand-set input can be treated similar to the Line-input pins", 42 AVDD (power) "Analog supply", 43 AVSS (power) "Analog ground", 44 LINEI+ (in) "Line input", 45 LINEI- (in) "Line input", 46 LINEO- (out) "600W output", 47 LINEO+ (out) "600W output", 48 NC "Not connected"

## TLV320AIC21IPFB
designator U?
Low-Power, Highly-Integrated, Programmable 16-Bit, 26-KSPS Dual-Channel CODEC, 48-Pin TQFP, Industrial Grade; Published: 16-Dec-2005; LatestRevisionDate: 13-Apr-2006; LatestRevisionNote: IPC-7351 Footprint Added.; DatasheetVersion: 13-Sep-2005; PackageVersion: Jan-1998; PackageReference: PFB48; Publisher: Altium Limited; PackageDescription: 48-Pin Thin Plastic Quad Flat Pack 0.5 mm Pitch; Code_JEDEC: MS-026; ComponentLink1Description: Manufacturer Link; ComponentLink1URL: http://www.ti.com/; ComponentLink2Description: Datasheet; ComponentLink2URL: http://focus.ti.com/lit/ds/symlink/tlv320aic21.pdf
footprint PFB48_N (Thin QFP, 48-Leads, Body 7x7mm, Pitch 0.5mm, IPC Medium Density)
footprint PFB48_L (Thin QFP, 48-Leads, Body 7x7mm, Pitch 0.5mm, IPC High Density)
footprint PFB48_M (Thin QFP, 48-Leads, Body 7x7mm, Pitch 0.5mm, IPC Low Density)
pins: 1 HDSI- (in) "Head-set input. The Head-set input can be treated similar to the Line-input pins", 2 HDSI+ (in) "Head-set input. The Head-set input can be treated similar to the Line-input pins", 3 HDSO- (out) "150W output", 4 HDSO+ (out) "150W output", 5 AVDD2 (power) "Analog power supply", 6 AVSS2 (power) "Analog ground", 7 TESTP (in) "Test pin. Should be connected to digital ground.", 8 NC "Not connected", 9 ~{PWRDN} (in) "Power down", 10 SDA (io) "I2C/S2C data", 11 SCL (in) "I2C/S2C clock", 12 IOVDD (power) "I/O power supply", 13 IOVSS (power) "I/O ground", 14 FSD (out) "Frame sync delayed", 15 DVDD (power) "Digital supply (1.8 V)", 16 DVSS (power) "Digital ground", 17 DOUT (out) "Data OUT", 18 DIN (in) "Data IN", 19 FS (io) "Frame sync", 20 SCLK (io) "Serial clock", 21 M/S (in) "Master slave select applied to CODEC1 only. CODEC2 is always a slave.", 22 MCLK (in) "Master clock", 23 ~{RESET} (in) "Reset", 24 VSS (power) "Device ground. Typically this should be connected to the Analog Ground.", 25 DRVSS1 (power) "Driver ground", 26 SPKO+ (out) "8W output", 27 DRVDD (power) "Driver supply", 28 SPKO- (out) "8W output", 29 DRVSS2 (power) "Driver ground", 30 CIDI- (in) "Caller-ID input. The Caller-ID input can be treated similar to the Line-input pins", 31 CIDI+ (in) "Caller-ID input. The Caller-ID input can be treated similar to the Line-input pins", 32 AVSS1 (power) "Analog ground", 33 AVDD1 (power) "Analog supply", 34 MICI- (in) "Microphone input", 35 MICI+ (in) "Microphone input", 36 MICBIAS (in) "Microphone bias", 37 LCDAC (out) "6-Bit DAC output may be used to drive LCDAC", 38 HNSO- (out) "150-W output", 39 HNSO+ (out) "150-W output", 40 HNSI- (in) "Hand-set input. The Hand-set input can be treated similar to the Line-input pins", 41 HNSI+ (in) "Hand-set input. The Hand-set input can be treated similar to the Line-input pins", 42 AVDD (power) "Analog supply", 43 AVSS (power) "Analog ground", 44 LINEI+ (in) "Line input", 45 LINEI- (in) "Line input", 46 LINEO- (out) "600W output", 47 LINEO+ (out) "600W output", 48 NC "Not connected"

## TLV320AIC21IPFBG4
designator U?
Low-Power, Highly-Integrated, Programmable 16-Bit, 26-KSPS Dual-Channel CODEC, 48-Pin TQFP, Industrial Grade; Published: 16-Dec-2005; LatestRevisionDate: 13-Apr-2006; LatestRevisionNote: IPC-7351 Footprint Added.; DatasheetVersion: 13-Sep-2005; PackageVersion: Jan-1998; PackageReference: PFB48; Publisher: Altium Limited; PackageDescription: 48-Pin Thin Plastic Quad Flat Pack 0.5 mm Pitch; Code_JEDEC: MS-026; ComponentLink1Description: Manufacturer Link; ComponentLink1URL: http://www.ti.com/; ComponentLink2Description: Datasheet; ComponentLink2URL: http://focus.ti.com/lit/ds/symlink/tlv320aic21.pdf
footprint PFB48_N (Thin QFP, 48-Leads, Body 7x7mm, Pitch 0.5mm, IPC Medium Density)
footprint PFB48_L (Thin QFP, 48-Leads, Body 7x7mm, Pitch 0.5mm, IPC High Density)
footprint PFB48_M (Thin QFP, 48-Leads, Body 7x7mm, Pitch 0.5mm, IPC Low Density)
pins: 1 HDSI- (in) "Head-set input. The Head-set input can be treated similar to the Line-input pins", 2 HDSI+ (in) "Head-set input. The Head-set input can be treated similar to the Line-input pins", 3 HDSO- (out) "150W output", 4 HDSO+ (out) "150W output", 5 AVDD2 (power) "Analog power supply", 6 AVSS2 (power) "Analog ground", 7 TESTP (in) "Test pin. Should be connected to digital ground.", 8 NC "Not connected", 9 ~{PWRDN} (in) "Power down", 10 SDA (io) "I2C/S2C data", 11 SCL (in) "I2C/S2C clock", 12 IOVDD (power) "I/O power supply", 13 IOVSS (power) "I/O ground", 14 FSD (out) "Frame sync delayed", 15 DVDD (power) "Digital supply (1.8 V)", 16 DVSS (power) "Digital ground", 17 DOUT (out) "Data OUT", 18 DIN (in) "Data IN", 19 FS (io) "Frame sync", 20 SCLK (io) "Serial clock", 21 M/S (in) "Master slave select applied to CODEC1 only. CODEC2 is always a slave.", 22 MCLK (in) "Master clock", 23 ~{RESET} (in) "Reset", 24 VSS (power) "Device ground. Typically this should be connected to the Analog Ground.", 25 DRVSS1 (power) "Driver ground", 26 SPKO+ (out) "8W output", 27 DRVDD (power) "Driver supply", 28 SPKO- (out) "8W output", 29 DRVSS2 (power) "Driver ground", 30 CIDI- (in) "Caller-ID input. The Caller-ID input can be treated similar to the Line-input pins", 31 CIDI+ (in) "Caller-ID input. The Caller-ID input can be treated similar to the Line-input pins", 32 AVSS1 (power) "Analog ground", 33 AVDD1 (power) "Analog supply", 34 MICI- (in) "Microphone input", 35 MICI+ (in) "Microphone input", 36 MICBIAS (in) "Microphone bias", 37 LCDAC (out) "6-Bit DAC output may be used to drive LCDAC", 38 HNSO- (out) "150-W output", 39 HNSO+ (out) "150-W output", 40 HNSI- (in) "Hand-set input. The Hand-set input can be treated similar to the Line-input pins", 41 HNSI+ (in) "Hand-set input. The Hand-set input can be treated similar to the Line-input pins", 42 AVDD (power) "Analog supply", 43 AVSS (power) "Analog ground", 44 LINEI+ (in) "Line input", 45 LINEI- (in) "Line input", 46 LINEO- (out) "600W output", 47 LINEO+ (out) "600W output", 48 NC "Not connected"

## TLV320AIC21IPFBR
designator U?
Low-Power, Highly-Integrated, Programmable 16-Bit, 26-KSPS Dual-Channel CODEC, 48-Pin TQFP, Industrial Grade; Published: 16-Dec-2005; LatestRevisionDate: 13-Apr-2006; LatestRevisionNote: IPC-7351 Footprint Added.; DatasheetVersion: 13-Sep-2005; PackageVersion: Jan-1998; PackageReference: PFB48; Publisher: Altium Limited; PackageDescription: 48-Pin Thin Plastic Quad Flat Pack 0.5 mm Pitch; Code_JEDEC: MS-026; ComponentLink1Description: Manufacturer Link; ComponentLink1URL: http://www.ti.com/; ComponentLink2Description: Datasheet; ComponentLink2URL: http://focus.ti.com/lit/ds/symlink/tlv320aic21.pdf
footprint PFB48_N (Thin QFP, 48-Leads, Body 7x7mm, Pitch 0.5mm, IPC Medium Density)
footprint PFB48_L (Thin QFP, 48-Leads, Body 7x7mm, Pitch 0.5mm, IPC High Density)
footprint PFB48_M (Thin QFP, 48-Leads, Body 7x7mm, Pitch 0.5mm, IPC Low Density)
pins: 1 HDSI- (in) "Head-set input. The Head-set input can be treated similar to the Line-input pins", 2 HDSI+ (in) "Head-set input. The Head-set input can be treated similar to the Line-input pins", 3 HDSO- (out) "150W output", 4 HDSO+ (out) "150W output", 5 AVDD2 (power) "Analog power supply", 6 AVSS2 (power) "Analog ground", 7 TESTP (in) "Test pin. Should be connected to digital ground.", 8 NC "Not connected", 9 ~{PWRDN} (in) "Power down", 10 SDA (io) "I2C/S2C data", 11 SCL (in) "I2C/S2C clock", 12 IOVDD (power) "I/O power supply", 13 IOVSS (power) "I/O ground", 14 FSD (out) "Frame sync delayed", 15 DVDD (power) "Digital supply (1.8 V)", 16 DVSS (power) "Digital ground", 17 DOUT (out) "Data OUT", 18 DIN (in) "Data IN", 19 FS (io) "Frame sync", 20 SCLK (io) "Serial clock", 21 M/S (in) "Master slave select applied to CODEC1 only. CODEC2 is always a slave.", 22 MCLK (in) "Master clock", 23 ~{RESET} (in) "Reset", 24 VSS (power) "Device ground. Typically this should be connected to the Analog Ground.", 25 DRVSS1 (power) "Driver ground", 26 SPKO+ (out) "8W output", 27 DRVDD (power) "Driver supply", 28 SPKO- (out) "8W output", 29 DRVSS2 (power) "Driver ground", 30 CIDI- (in) "Caller-ID input. The Caller-ID input can be treated similar to the Line-input pins", 31 CIDI+ (in) "Caller-ID input. The Caller-ID input can be treated similar to the Line-input pins", 32 AVSS1 (power) "Analog ground", 33 AVDD1 (power) "Analog supply", 34 MICI- (in) "Microphone input", 35 MICI+ (in) "Microphone input", 36 MICBIAS (in) "Microphone bias", 37 LCDAC (out) "6-Bit DAC output may be used to drive LCDAC", 38 HNSO- (out) "150-W output", 39 HNSO+ (out) "150-W output", 40 HNSI- (in) "Hand-set input. The Hand-set input can be treated similar to the Line-input pins", 41 HNSI+ (in) "Hand-set input. The Hand-set input can be treated similar to the Line-input pins", 42 AVDD (power) "Analog supply", 43 AVSS (power) "Analog ground", 44 LINEI+ (in) "Line input", 45 LINEI- (in) "Line input", 46 LINEO- (out) "600W output", 47 LINEO+ (out) "600W output", 48 NC "Not connected"

## TLV320AIC21IPFBRG4
designator U?
Low-Power, Highly-Integrated, Programmable 16-Bit, 26-KSPS Dual-Channel CODEC, 48-Pin TQFP, Industrial Grade; Published: 16-Dec-2005; LatestRevisionDate: 13-Apr-2006; LatestRevisionNote: IPC-7351 Footprint Added.; DatasheetVersion: 13-Sep-2005; PackageVersion: Jan-1998; PackageReference: PFB48; Publisher: Altium Limited; PackageDescription: 48-Pin Thin Plastic Quad Flat Pack 0.5 mm Pitch; Code_JEDEC: MS-026; ComponentLink1Description: Manufacturer Link; ComponentLink1URL: http://www.ti.com/; ComponentLink2Description: Datasheet; ComponentLink2URL: http://focus.ti.com/lit/ds/symlink/tlv320aic21.pdf
footprint PFB48_N (Thin QFP, 48-Leads, Body 7x7mm, Pitch 0.5mm, IPC Medium Density)
footprint PFB48_L (Thin QFP, 48-Leads, Body 7x7mm, Pitch 0.5mm, IPC High Density)
footprint PFB48_M (Thin QFP, 48-Leads, Body 7x7mm, Pitch 0.5mm, IPC Low Density)
pins: 1 HDSI- (in) "Head-set input. The Head-set input can be treated similar to the Line-input pins", 2 HDSI+ (in) "Head-set input. The Head-set input can be treated similar to the Line-input pins", 3 HDSO- (out) "150W output", 4 HDSO+ (out) "150W output", 5 AVDD2 (power) "Analog power supply", 6 AVSS2 (power) "Analog ground", 7 TESTP (in) "Test pin. Should be connected to digital ground.", 8 NC "Not connected", 9 ~{PWRDN} (in) "Power down", 10 SDA (io) "I2C/S2C data", 11 SCL (in) "I2C/S2C clock", 12 IOVDD (power) "I/O power supply", 13 IOVSS (power) "I/O ground", 14 FSD (out) "Frame sync delayed", 15 DVDD (power) "Digital supply (1.8 V)", 16 DVSS (power) "Digital ground", 17 DOUT (out) "Data OUT", 18 DIN (in) "Data IN", 19 FS (io) "Frame sync", 20 SCLK (io) "Serial clock", 21 M/S (in) "Master slave select applied to CODEC1 only. CODEC2 is always a slave.", 22 MCLK (in) "Master clock", 23 ~{RESET} (in) "Reset", 24 VSS (power) "Device ground. Typically this should be connected to the Analog Ground.", 25 DRVSS1 (power) "Driver ground", 26 SPKO+ (out) "8W output", 27 DRVDD (power) "Driver supply", 28 SPKO- (out) "8W output", 29 DRVSS2 (power) "Driver ground", 30 CIDI- (in) "Caller-ID input. The Caller-ID input can be treated similar to the Line-input pins", 31 CIDI+ (in) "Caller-ID input. The Caller-ID input can be treated similar to the Line-input pins", 32 AVSS1 (power) "Analog ground", 33 AVDD1 (power) "Analog supply", 34 MICI- (in) "Microphone input", 35 MICI+ (in) "Microphone input", 36 MICBIAS (in) "Microphone bias", 37 LCDAC (out) "6-Bit DAC output may be used to drive LCDAC", 38 HNSO- (out) "150-W output", 39 HNSO+ (out) "150-W output", 40 HNSI- (in) "Hand-set input. The Hand-set input can be treated similar to the Line-input pins", 41 HNSI+ (in) "Hand-set input. The Hand-set input can be treated similar to the Line-input pins", 42 AVDD (power) "Analog supply", 43 AVSS (power) "Analog ground", 44 LINEI+ (in) "Line input", 45 LINEI- (in) "Line input", 46 LINEO- (out) "600W output", 47 LINEO+ (out) "600W output", 48 NC "Not connected"